# EAGLE library part LM13600 (library wb-ota)
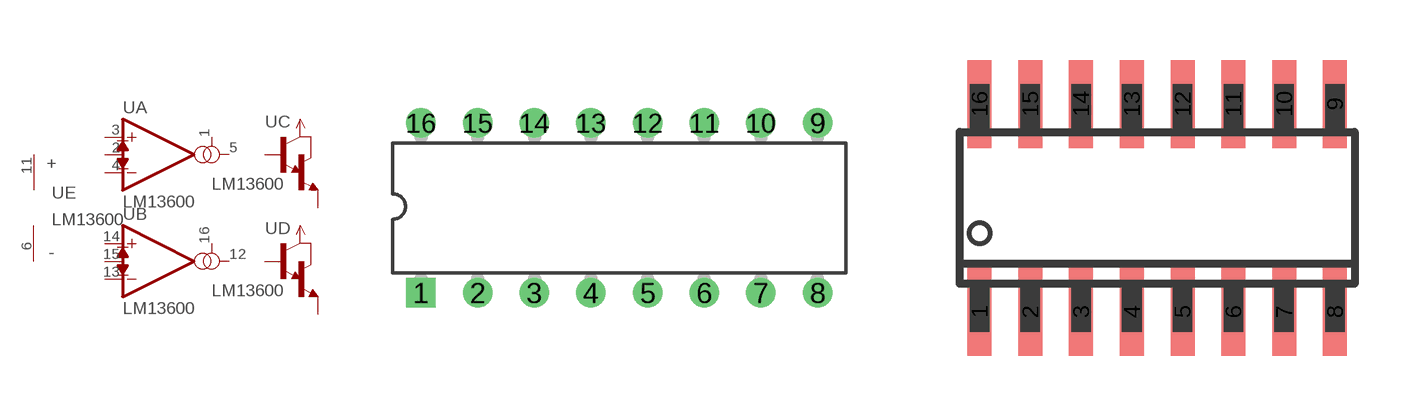
[diagram p5: symbol with the pads of DIL16; footprints DIL16, S016]

Designator prefix -; gates A=TYP-OTA.DBI B=TYP-OTA.DBI C=TYP-BUFF D=TYP-BUFF E=TYP-PWR

## LM13600D  [DIL16]
1  A:I-BIAS  in
2  A:D-BIAS  in
3  A:NON-INVERTING(+)  in
4  A:INVERTING(-)  in
5  A:OUT  out
6  E:V-  pwr
7  C:BUFF-IN  pas
8  C:BUFF-OUT  pas
9  D:BUFF-OUT  pas
10  D:BUFF-IN  pas
11  E:V+  pwr
12  B:OUT  out
13  B:INVERTING(-)  in
14  B:NON-INVERTING(+)  in
15  B:D-BIAS  in
16  B:I-BIAS  in

## LM13600S  [S016]
Pads as for DIL16

## Footprint DIL16 (pad centres in mm)
drill 0.813 square: 1 -8.89,-3.81
drill 0.813: 2 -6.35,-3.81; 3 -3.81,-3.81; 4 -1.27,-3.81; 5 1.27,-3.81; 6 3.81,-3.81; 7 6.35,-3.81; 8 8.89,-3.81; 9 8.89,3.81; 10 6.35,3.81; 11 3.81,3.81; 12 1.27,3.81; 13 -1.27,3.81; 14 -3.81,3.81; 15 -6.35,3.81; 16 -8.89,3.81

## Footprint S016 (pad centres in mm)
smd 0.6 x 2.2: 1 -4.445,-2.6; 2 -3.175,-2.6; 3 -1.905,-2.6; 4 -0.635,-2.6; 5 0.635,-2.6; 6 1.905,-2.6; 7 3.175,-2.6; 8 4.445,-2.6; 9 4.445,2.6; 10 3.175,2.6; 11 1.905,2.6; 12 0.635,2.6; 13 -0.635,2.6; 14 -1.905,2.6; 15 -3.175,2.6; 16 -4.445,2.6